# Altium schematic symbol library discrete_inductance.SchLib: 5 symbols
Pins are listed as number, name and electrical type; pins without a type are passive.

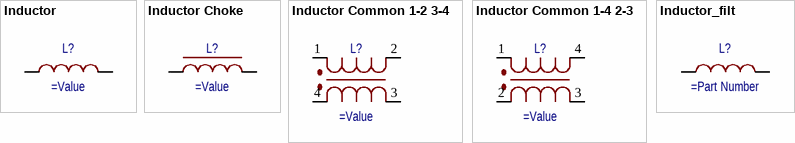
[diagram p0: symbols Inductor to Inductor_filt]

## Inductor
designator L?
Индуктивность
pins: 1, 2

## Inductor Choke
designator L?
Дроссель с магнитопроводом
pins: 1, 2

## Inductor Common 1-2 3-4
designator L?
Синфазный дроссель
pins: 1, 2, 3, 4

## Inductor Common 1-4 2-3
designator L?
Синфазный дроссель
pins: 1, 2, 3, 4

## Inductor_filt
designator L?
Индуктивность
pins: 1, 2